# EAGLE library part MAXIM_ICL7660CPA (library eOscope)
VOLTAGE CONVERTER
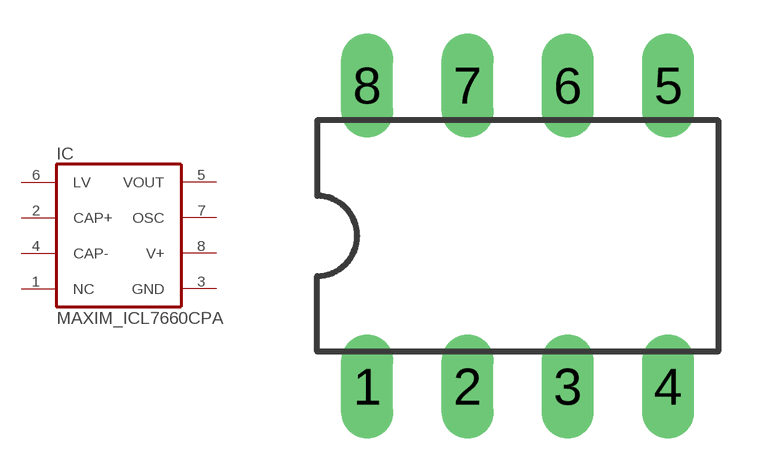
[diagram p17: symbol with the pads of MAXIM_DIL08; footprint MAXIM_DIL08]

Designator prefix IC

## MAXIM_ICL7660CPA  [MAXIM_DIL08]
1  NC  nc
2  CAP+  pas
3  GND  pwr
4  CAP-  pas
5  VOUT  out
6  LV  pas
7  OSC  out
8  V+  pwr

## Footprint MAXIM_DIL08 (pad centres in mm)
Dual In Line Package
drill 0.813 long: 1 -3.81,-3.81; 2 -1.27,-3.81; 3 1.27,-3.81; 4 3.81,-3.81; 5 3.81,3.81; 6 1.27,3.81; 7 -1.27,3.81; 8 -3.81,3.81